# Altium schematic symbol library MAX1708.SchLib: 1 symbol
Pins are listed as number, name and electrical type; pins without a type are passive.

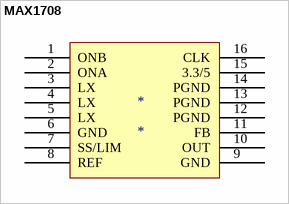
[diagram p0: symbol MAX1708]

## MAX1708
designator *
footprint QSOP16
pins: 1 ONB, 2 ONA, 3 LX, 4 LX, 5 LX, 6 GND, 7 SS/LIM, 8 REF, 9 GND, 10 OUT, 11 FB, 12 PGND, 13 PGND, 14 PGND, 15 3.3/5, 16 CLK